# Altium footprint library 10pin FlatPack + MSOP 8.PcbLib: 1 footprints
Each footprint in its own frame and in the unit in brackets; x right, y up, seen from the top. Pads: shape width x height; smd on the part's side, far side on the other; paste and mask are expansions set on the pad; w line width, h text height; cw(c..) or ccw(c..) is an arc to the next point about the centre after c.
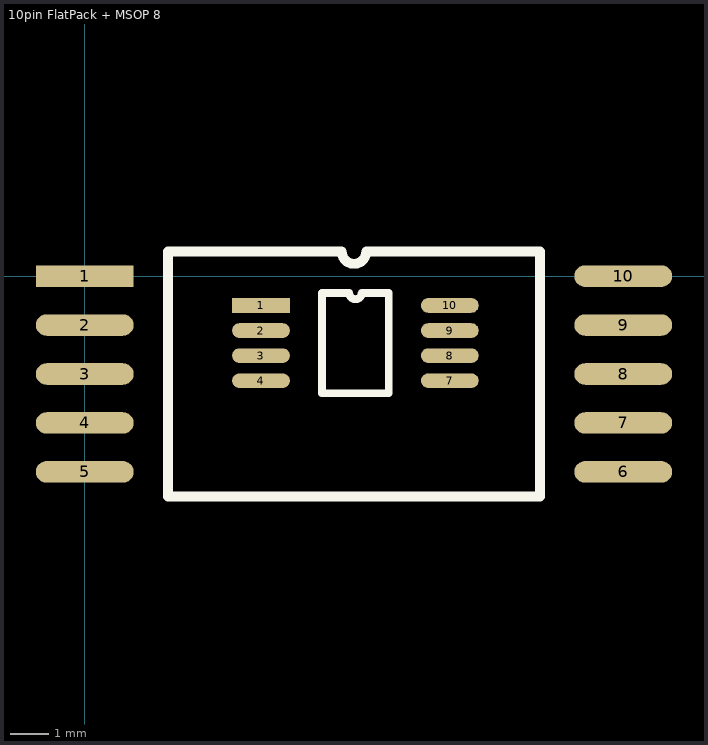
[diagram p0: the footprint, top view; thin cyan lines are the x and y axes]

## 10pin FlatPack + MSOP 8 [mil]
pads (18):
  rect 100x22 smd: 1(0,0)
  rect 59.06x14.96 smd: 1(180,-30)
  oval 100x22 smd: 2(0,-50) 3(0,-100) 4(0,-150) 5(0,-200) 6(550,-200) 7(550,-150) 8(550,-100) 9(550,-50) 10(550,0)
  oval 59.06x14.96 smd: 2(180,-55.59) 3(180,-81.18) 4(180,-106.77) 7(372.91,-106.77) 8(372.91,-81.18) 9(372.91,-55.59) 10(372.91,-30)
Top Overlay:
  lines w7.87: 242.4,-119.57 310.51,-119.57 310.51,-17.2 282.85,-17.2 cw(c276.46,-17.2) 270.06,-17.2 242.4,-17.2 242.4,-119.57
  lines w10: 85,-225 85,25 262.5,25 ccw(c275,25) 287.5,25 465,25 465,-225 85,-225
3D body: height 115, standoff 1, extent 85,-225 465,25